# Altium schematic symbol library SCH - MCU - STM32 - ST MICROELECTRONICS STM32L162QDHX UFBGA132.SchLib: 1 symbol
Pins are listed as number, name and electrical type; pins without a type are passive.

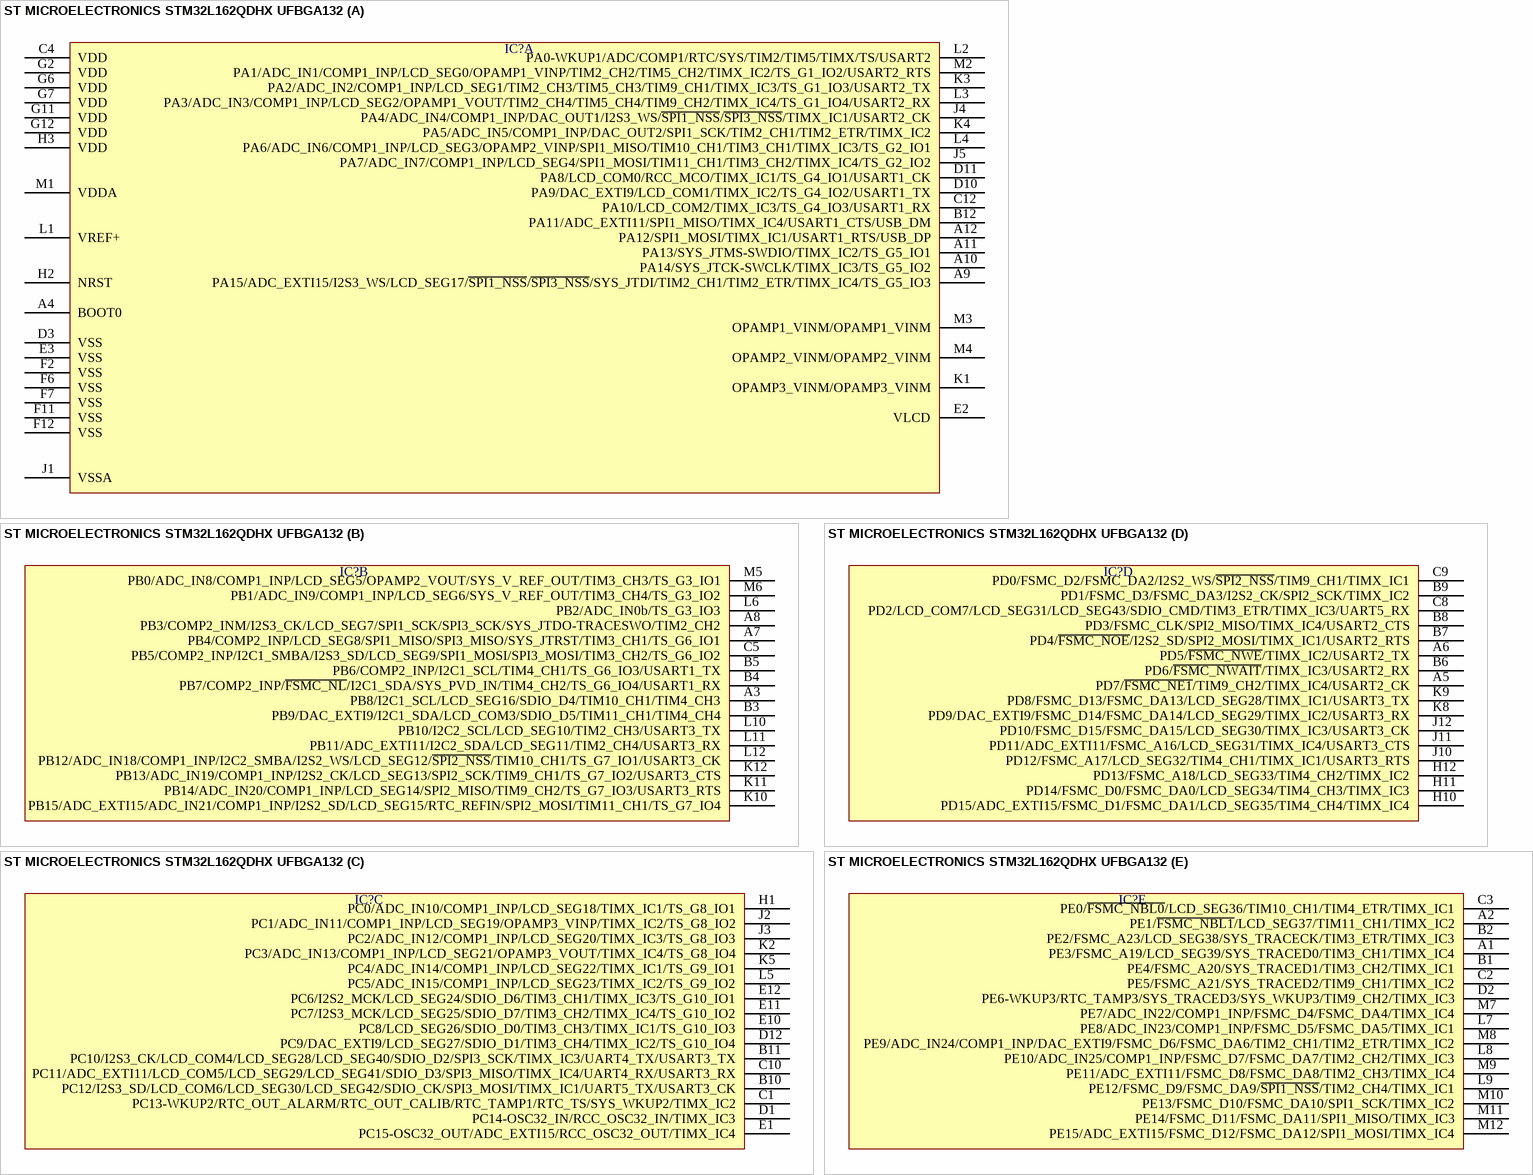
[diagram p0: symbol ST MICROELECTRONICS STM32L162QDHX UFBGA132]

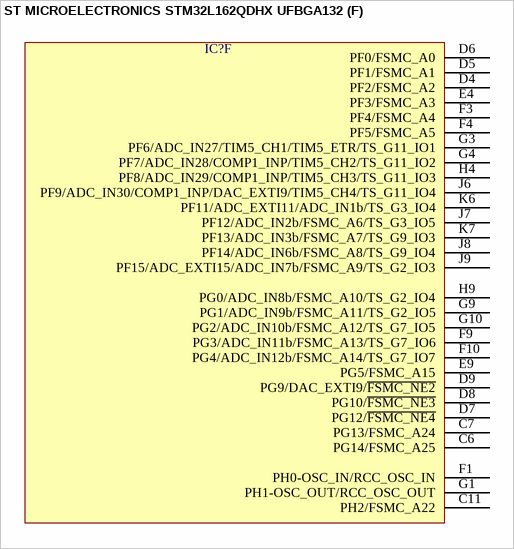
[diagram p1: symbol ST MICROELECTRONICS STM32L162QDHX UFBGA132]

## ST MICROELECTRONICS STM32L162QDHX UFBGA132
designator IC?  (value not drawn)
part A pins: A4 BOOT0, A9 PA15/ADC_EXTI15/I2S3_WS/LCD_SEG17/~{SPI1_NSS}/~{SPI3_NSS}/SYS_JTDI/TIM2_CH1/TIM2_ETR/TIMX_IC4/TS_G5_IO3, A10 PA14/SYS_JTCK-SWCLK/TIMX_IC3/TS_G5_IO2, A11 PA13/SYS_JTMS-SWDIO/TIMX_IC2/TS_G5_IO1, A12 PA12/SPI1_MOSI/TIMX_IC1/USART1_RTS/USB_DP, B12 PA11/ADC_EXTI11/SPI1_MISO/TIMX_IC4/USART1_CTS/USB_DM, C4 VDD, C12 PA10/LCD_COM2/TIMX_IC3/TS_G4_IO3/USART1_RX, D3 VSS, D10 PA9/DAC_EXTI9/LCD_COM1/TIMX_IC2/TS_G4_IO2/USART1_TX, D11 PA8/LCD_COM0/RCC_MCO/TIMX_IC1/TS_G4_IO1/USART1_CK, E2 VLCD, E3 VSS, F2 VSS, F6 VSS, F7 VSS, F11 VSS, F12 VSS, G2 VDD, G6 VDD, G7 VDD, G11 VDD, G12 VDD, H2 NRST, H3 VDD, J1 VSSA, J4 PA4/ADC_IN4/COMP1_INP/DAC_OUT1/I2S3_WS/~{SPI1_NSS}/~{SPI3_NSS}/TIMX_IC1/USART2_CK, J5 PA7/ADC_IN7/COMP1_INP/LCD_SEG4/SPI1_MOSI/TIM11_CH1/TIM3_CH2/TIMX_IC4/TS_G2_IO2, K1 OPAMP3_VINM/OPAMP3_VINM, K3 PA2/ADC_IN2/COMP1_INP/LCD_SEG1/TIM2_CH3/TIM5_CH3/TIM9_CH1/TIMX_IC3/TS_G1_IO3/USART2_TX, K4 PA5/ADC_IN5/COMP1_INP/DAC_OUT2/SPI1_SCK/TIM2_CH1/TIM2_ETR/TIMX_IC2, L1 VREF+, L2 PA0-WKUP1/ADC/COMP1/RTC/SYS/TIM2/TIM5/TIMX/TS/USART2, L3 PA3/ADC_IN3/COMP1_INP/LCD_SEG2/OPAMP1_VOUT/TIM2_CH4/TIM5_CH4/TIM9_CH2/TIMX_IC4/TS_G1_IO4/USART2_RX, L4 PA6/ADC_IN6/COMP1_INP/LCD_SEG3/OPAMP2_VINP/SPI1_MISO/TIM10_CH1/TIM3_CH1/TIMX_IC3/TS_G2_IO1, M1 VDDA, M2 PA1/ADC_IN1/COMP1_INP/LCD_SEG0/OPAMP1_VINP/TIM2_CH2/TIM5_CH2/TIMX_IC2/TS_G1_IO2/USART2_RTS, M3 OPAMP1_VINM/OPAMP1_VINM, M4 OPAMP2_VINM/OPAMP2_VINM
part B pins: A3 PB8/I2C1_SCL/LCD_SEG16/SDIO_D4/TIM10_CH1/TIM4_CH3, A7 PB4/COMP2_INP/LCD_SEG8/SPI1_MISO/SPI3_MISO/SYS_JTRST/TIM3_CH1/TS_G6_IO1, A8 PB3/COMP2_INM/I2S3_CK/LCD_SEG7/SPI1_SCK/SPI3_SCK/SYS_JTDO-TRACESWO/TIM2_CH2, B3 PB9/DAC_EXTI9/I2C1_SDA/LCD_COM3/SDIO_D5/TIM11_CH1/TIM4_CH4, B4 PB7/COMP2_INP/~{FSMC_NL}/I2C1_SDA/SYS_PVD_IN/TIM4_CH2/TS_G6_IO4/USART1_RX, B5 PB6/COMP2_INP/I2C1_SCL/TIM4_CH1/TS_G6_IO3/USART1_TX, C5 PB5/COMP2_INP/I2C1_SMBA/I2S3_SD/LCD_SEG9/SPI1_MOSI/SPI3_MOSI/TIM3_CH2/TS_G6_IO2, K10 PB15/ADC_EXTI15/ADC_IN21/COMP1_INP/I2S2_SD/LCD_SEG15/RTC_REFIN/SPI2_MOSI/TIM11_CH1/TS_G7_IO4, K11 PB14/ADC_IN20/COMP1_INP/LCD_SEG14/SPI2_MISO/TIM9_CH2/TS_G7_IO3/USART3_RTS, K12 PB13/ADC_IN19/COMP1_INP/I2S2_CK/LCD_SEG13/SPI2_SCK/TIM9_CH1/TS_G7_IO2/USART3_CTS, L6 PB2/ADC_IN0b/TS_G3_IO3, L10 PB10/I2C2_SCL/LCD_SEG10/TIM2_CH3/USART3_TX, L11 PB11/ADC_EXTI11/I2C2_SDA/LCD_SEG11/TIM2_CH4/USART3_RX, L12 PB12/ADC_IN18/COMP1_INP/I2C2_SMBA/I2S2_WS/LCD_SEG12/~{SPI2_NSS}/TIM10_CH1/TS_G7_IO1/USART3_CK, M5 PB0/ADC_IN8/COMP1_INP/LCD_SEG5/OPAMP2_VOUT/SYS_V_REF_OUT/TIM3_CH3/TS_G3_IO1, M6 PB1/ADC_IN9/COMP1_INP/LCD_SEG6/SYS_V_REF_OUT/TIM3_CH4/TS_G3_IO2
part C pins: B10 PC12/I2S3_SD/LCD_COM6/LCD_SEG30/LCD_SEG42/SDIO_CK/SPI3_MOSI/TIMX_IC1/UART5_TX/USART3_CK, B11 PC10/I2S3_CK/LCD_COM4/LCD_SEG28/LCD_SEG40/SDIO_D2/SPI3_SCK/TIMX_IC3/UART4_TX/USART3_TX, C1 PC13-WKUP2/RTC_OUT_ALARM/RTC_OUT_CALIB/RTC_TAMP1/RTC_TS/SYS_WKUP2/TIMX_IC2, C10 PC11/ADC_EXTI11/LCD_COM5/LCD_SEG29/LCD_SEG41/SDIO_D3/SPI3_MISO/TIMX_IC4/UART4_RX/USART3_RX, D1 PC14-OSC32_IN/RCC_OSC32_IN/TIMX_IC3, D12 PC9/DAC_EXTI9/LCD_SEG27/SDIO_D1/TIM3_CH4/TIMX_IC2/TS_G10_IO4, E1 PC15-OSC32_OUT/ADC_EXTI15/RCC_OSC32_OUT/TIMX_IC4, E10 PC8/LCD_SEG26/SDIO_D0/TIM3_CH3/TIMX_IC1/TS_G10_IO3, E11 PC7/I2S3_MCK/LCD_SEG25/SDIO_D7/TIM3_CH2/TIMX_IC4/TS_G10_IO2, E12 PC6/I2S2_MCK/LCD_SEG24/SDIO_D6/TIM3_CH1/TIMX_IC3/TS_G10_IO1, H1 PC0/ADC_IN10/COMP1_INP/LCD_SEG18/TIMX_IC1/TS_G8_IO1, J2 PC1/ADC_IN11/COMP1_INP/LCD_SEG19/OPAMP3_VINP/TIMX_IC2/TS_G8_IO2, J3 PC2/ADC_IN12/COMP1_INP/LCD_SEG20/TIMX_IC3/TS_G8_IO3, K2 PC3/ADC_IN13/COMP1_INP/LCD_SEG21/OPAMP3_VOUT/TIMX_IC4/TS_G8_IO4, K5 PC4/ADC_IN14/COMP1_INP/LCD_SEG22/TIMX_IC1/TS_G9_IO1, L5 PC5/ADC_IN15/COMP1_INP/LCD_SEG23/TIMX_IC2/TS_G9_IO2
part D pins: A5 PD7/~{FSMC_NE1}/TIM9_CH2/TIMX_IC4/USART2_CK, A6 PD5/~{FSMC_NWE}/TIMX_IC2/USART2_TX, B6 PD6/~{FSMC_NWAIT}/TIMX_IC3/USART2_RX, B7 PD4/~{FSMC_NOE}/I2S2_SD/SPI2_MOSI/TIMX_IC1/USART2_RTS, B8 PD3/FSMC_CLK/SPI2_MISO/TIMX_IC4/USART2_CTS, B9 PD1/FSMC_D3/FSMC_DA3/I2S2_CK/SPI2_SCK/TIMX_IC2, C8 PD2/LCD_COM7/LCD_SEG31/LCD_SEG43/SDIO_CMD/TIM3_ETR/TIMX_IC3/UART5_RX, C9 PD0/FSMC_D2/FSMC_DA2/I2S2_WS/~{SPI2_NSS}/TIM9_CH1/TIMX_IC1, H10 PD15/ADC_EXTI15/FSMC_D1/FSMC_DA1/LCD_SEG35/TIM4_CH4/TIMX_IC4, H11 PD14/FSMC_D0/FSMC_DA0/LCD_SEG34/TIM4_CH3/TIMX_IC3, H12 PD13/FSMC_A18/LCD_SEG33/TIM4_CH2/TIMX_IC2, J10 PD12/FSMC_A17/LCD_SEG32/TIM4_CH1/TIMX_IC1/USART3_RTS, J11 PD11/ADC_EXTI11/FSMC_A16/LCD_SEG31/TIMX_IC4/USART3_CTS, J12 PD10/FSMC_D15/FSMC_DA15/LCD_SEG30/TIMX_IC3/USART3_CK, K8 PD9/DAC_EXTI9/FSMC_D14/FSMC_DA14/LCD_SEG29/TIMX_IC2/USART3_RX, K9 PD8/FSMC_D13/FSMC_DA13/LCD_SEG28/TIMX_IC1/USART3_TX
part E pins: A1 PE3/FSMC_A19/LCD_SEG39/SYS_TRACED0/TIM3_CH1/TIMX_IC4, A2 PE1/~{FSMC_NBL1}/LCD_SEG37/TIM11_CH1/TIMX_IC2, B1 PE4/FSMC_A20/SYS_TRACED1/TIM3_CH2/TIMX_IC1, B2 PE2/FSMC_A23/LCD_SEG38/SYS_TRACECK/TIM3_ETR/TIMX_IC3, C2 PE5/FSMC_A21/SYS_TRACED2/TIM9_CH1/TIMX_IC2, C3 PE0/~{FSMC_NBL0}/LCD_SEG36/TIM10_CH1/TIM4_ETR/TIMX_IC1, D2 PE6-WKUP3/RTC_TAMP3/SYS_TRACED3/SYS_WKUP3/TIM9_CH2/TIMX_IC3, L7 PE8/ADC_IN23/COMP1_INP/FSMC_D5/FSMC_DA5/TIMX_IC1, L8 PE10/ADC_IN25/COMP1_INP/FSMC_D7/FSMC_DA7/TIM2_CH2/TIMX_IC3, L9 PE12/FSMC_D9/FSMC_DA9/~{SPI1_NSS}/TIM2_CH4/TIMX_IC1, M7 PE7/ADC_IN22/COMP1_INP/FSMC_D4/FSMC_DA4/TIMX_IC4, M8 PE9/ADC_IN24/COMP1_INP/DAC_EXTI9/FSMC_D6/FSMC_DA6/TIM2_CH1/TIM2_ETR/TIMX_IC2, M9 PE11/ADC_EXTI11/FSMC_D8/FSMC_DA8/TIM2_CH3/TIMX_IC4, M10 PE13/FSMC_D10/FSMC_DA10/SPI1_SCK/TIMX_IC2, M11 PE14/FSMC_D11/FSMC_DA11/SPI1_MISO/TIMX_IC3, M12 PE15/ADC_EXTI15/FSMC_D12/FSMC_DA12/SPI1_MOSI/TIMX_IC4
part F pins: C6 PG14/FSMC_A25, C7 PG13/FSMC_A24, C11 PH2/FSMC_A22, D4 PF2/FSMC_A2, D5 PF1/FSMC_A1, D6 PF0/FSMC_A0, D7 PG12/~{FSMC_NE4}, D8 PG10/~{FSMC_NE3}, D9 PG9/DAC_EXTI9/~{FSMC_NE2}, E4 PF3/FSMC_A3, E9 PG5/FSMC_A15, F1 PH0-OSC_IN/RCC_OSC_IN, F3 PF4/FSMC_A4, F4 PF5/FSMC_A5, F9 PG3/ADC_IN11b/FSMC_A13/TS_G7_IO6, F10 PG4/ADC_IN12b/FSMC_A14/TS_G7_IO7, G1 PH1-OSC_OUT/RCC_OSC_OUT, G3 PF6/ADC_IN27/TIM5_CH1/TIM5_ETR/TS_G11_IO1, G4 PF7/ADC_IN28/COMP1_INP/TIM5_CH2/TS_G11_IO2, G9 PG1/ADC_IN9b/FSMC_A11/TS_G2_IO5, G10 PG2/ADC_IN10b/FSMC_A12/TS_G7_IO5, H4 PF8/ADC_IN29/COMP1_INP/TIM5_CH3/TS_G11_IO3, H9 PG0/ADC_IN8b/FSMC_A10/TS_G2_IO4, J6 PF9/ADC_IN30/COMP1_INP/DAC_EXTI9/TIM5_CH4/TS_G11_IO4, J7 PF12/ADC_IN2b/FSMC_A6/TS_G3_IO5, J8 PF14/ADC_IN6b/FSMC_A8/TS_G9_IO4, J9 PF15/ADC_EXTI15/ADC_IN7b/FSMC_A9/TS_G2_IO3, K6 PF11/ADC_EXTI11/ADC_IN1b/TS_G3_IO4, K7 PF13/ADC_IN3b/FSMC_A7/TS_G9_IO3